# EAGLE library part MMA8452Q (library Mine)
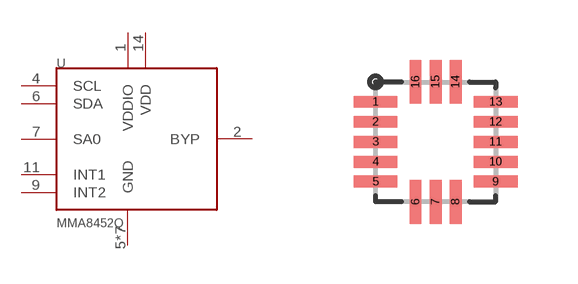
[diagram p60: symbol with the pads of QFN16-COL; footprint QFN16-COL]

Designator prefix -

## MMA8452Q  [QFN16-COL]
1  VDDIO  pwr
2  BYP
4  SCL  in
5  GND  pwr
6  SDA  oc
7  SA0  in
8  GND  pwr
9  INT2  out
10  GND  pwr
11  INT1  out
12  GND  pwr
13  GND  pwr
14  VDD  pwr
15  GND  pwr
16  GND  pwr

## Footprint QFN16-COL (pad centres in mm)
smd 1.1 x 0.3: 1 -1.5,1; 2 -1.5,0.5; 3 -1.5,0; 4 -1.5,-0.5; 5 -1.5,-1; 9 1.5,-1; 10 1.5,-0.5; 11 1.5,0; 12 1.5,0.5; 13 1.5,1
smd 0.3 x 1.1: 6 -0.5,-1.5; 7 0,-1.5; 8 0.5,-1.5; 14 0.5,1.5; 15 0,1.5; 16 -0.5,1.5